# EAGLE library part ELCOMPASS (library ELCano_Footprints)
ADAFRUIT LSM303DLHC COMPASS FOOT PRINT
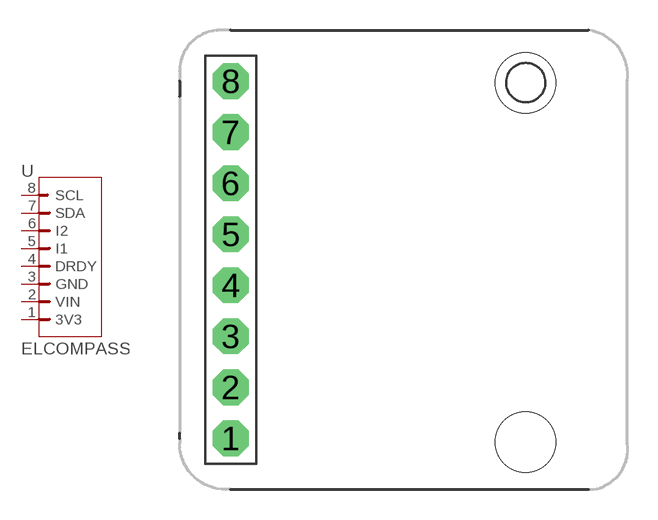
[diagram p3: symbol with the pads of ELCOMPASS; footprint ELCOMPASS]

Designator prefix U

## ELCOMPASS  [ELCOMPASS]
1  3V3  nc
2  VIN  pwr
3  GND  pwr
4  DRDY
5  I1
6  I2
7  SDA
8  SCL

## Footprint ELCOMPASS (pad centres in mm)
drill 1.016 pad 1.778 octagon: 1 1.27,1.27; 2 1.27,3.81; 3 1.27,6.35; 4 1.27,8.89; 5 1.27,11.43; 6 1.27,13.97; 7 1.27,16.51; 8 1.27,19.05
hole 3 at 15.926,18.97
hole 3 at 15.926,1.09